# Altium schematic symbol library CL10B104KO8NNNC.SchLib: 1 symbol
Pins are listed as number, name and electrical type; pins without a type are passive.

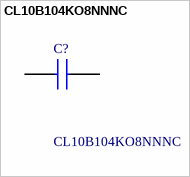
[diagram p0: symbol CL10B104KO8NNNC]

## CL10B104KO8NNNC
designator C?
Samsung Electro-Mechanics 0603 (1608M) 100nF Multilayer Ceramic Capacitor MLCC 16V dc +/-10% SMD CL10B104KO8NNNC; Geometry.Height: 0.9mm; Mouser Part Number: 187-CL10B104KO8NNNC; Mouser Price/Stock: https://www.mouser.co.uk/ProductDetail/Samsung-Electro-Mechanics/CL10B104KO8NNNC?qs=349EhDEZ59pqoJFRnk4a8w%3D%3D; Manufacturer_Name: SAMSUNG; Manufacturer_Part_Number: CL10B104KO8NNNC; Datasheet Link: https://datasheet.datasheetarchive.com/originals/distributors/Datasheets_SAMA/482ee8b8a1396945e1abac0da9778f7f.pdf
footprint CAPC1608X90N
pins: 1, 2